# Altium footprint library Altium_WE_eiSos_WE-DS Bent 90°-TH.PcbLib: 8 footprints
Each footprint in its own frame and in the unit in brackets; x right, y up, seen from the top. Pads: shape width x height; smd on the part's side, far side on the other; paste and mask are expansions set on the pad; w line width, h text height; cw(c..) or ccw(c..) is an arc to the next point about the centre after c.
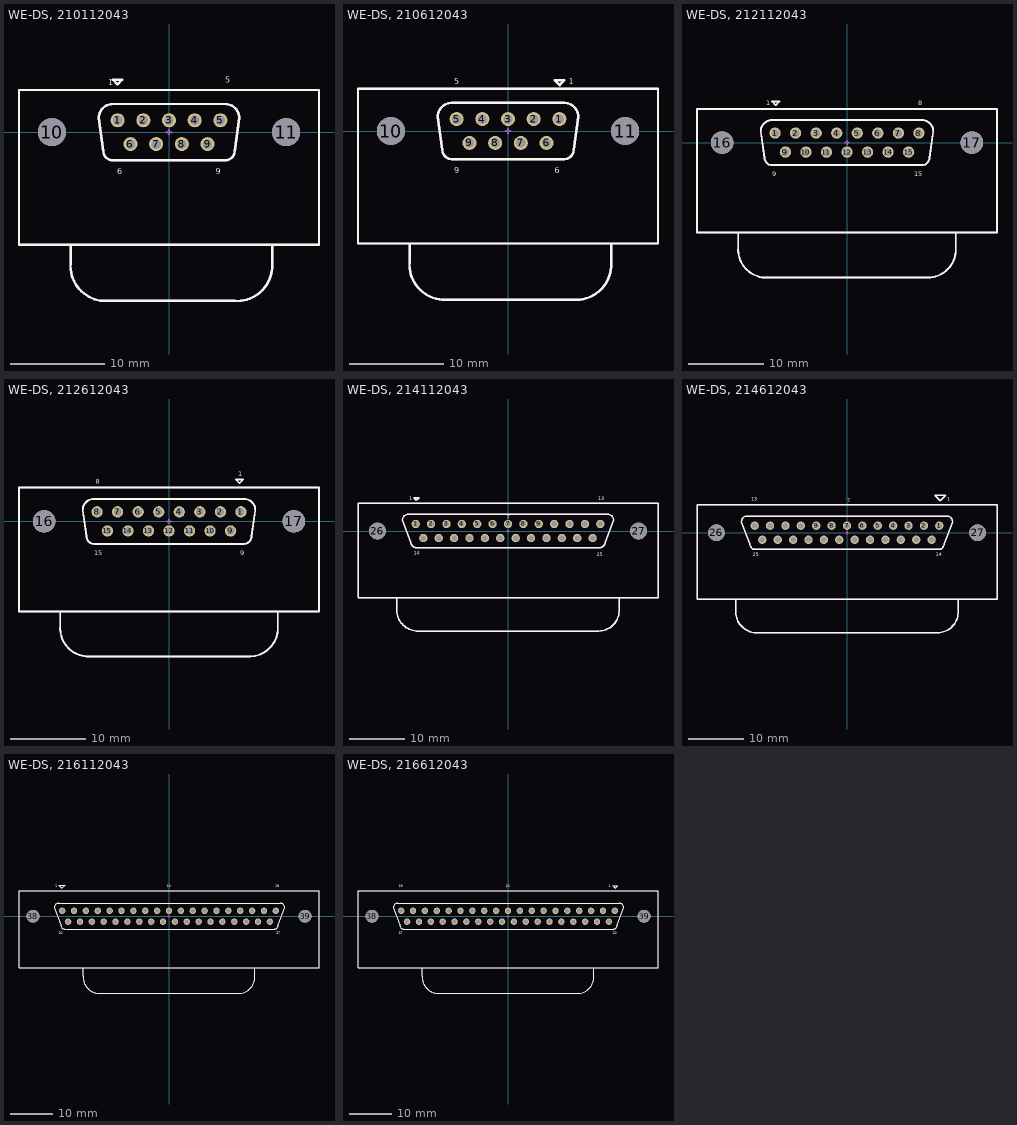
[diagram p0: the footprints below, top view; thin cyan lines are the x and y axes]

## WE-DS, 210112043 [mm] "D-SUB- 9P, MALE, RT ANGLE, TH"
height 12
pads (11):
  round 1.5 hole 1 unplated: 1(-5.48,1.27) 2(-2.74,1.27) 3(0,1.27) 4(2.74,1.27) 5(5.48,1.27) 6(-4.11,-1.27) 7(-1.37,-1.27) 8(1.37,-1.27) 9(4.11,-1.27)
  round 3 hole 3 unplated: 10(-12.5,0) 11(12.5,0)
Top Overlay:
  lines w0.254: -10.5,-12 -10.5,-14 ccw(c-6.75,-14.25) -7,-18 7,-18 ccw(c7.25,-14.25) 11,-14.5 11,-12 ; -5.996,-3.004 cw(c-5.996,-2) -7,-2 -7.5,1.5 cw(c-6,1.5) -6,3 6,3 cw(c6,1.5) 7.5,1.5 7,-2 cw(c5.996,-2) 5.996,-3.004 ; -5.996,-3 6,-3 ; -5.5,5.1 -5,5.6 -6,5.6 -5.5,5.1 ; -5.5,5.1 -5.5,5.1 ; -16,-12 16,-12 16,4.5 -16,4.5 -16,0 -16,-12
  text "1" at -6.5,5 h0.64
  text "5" at 6,5.25 h0.64
  text "9" at 5,-4.5 h0.64
  text "6" at -5.5,-4.5 h0.64
Mechanical 15:
  lines w0.254: -10.5,-12 -10.5,-14 ccw(c-6.75,-14.25) -7,-18 7,-18 ccw(c7.25,-14.25) 11,-14.5 11,-12 ; -5.996,-3.004 cw(c-5.996,-2) -7,-2 -7.5,1.5 cw(c-6,1.5) -6,3 6,3 cw(c6,1.5) 7.5,1.5 7,-2 cw(c5.996,-2) 5.996,-3.004 ; -5.996,-3 6,-3 ; -0.25,0 0.25,0 ; 0,-0.25 0,0.25 ; -16,-12 -16,0 -16,4.5 16,4.5 16,-12 -16,-12
3D body: height 13.2, standoff -3.6, extent -15.4,-17.5 15.4,4.2

## WE-DS, 210612043 [mm] "D-SUB- 9P, FEMALE, RT ANGLE, TH"
height 12
pads (11):
  round 1.5 hole 1 unplated: 1(5.48,1.27) 2(2.74,1.27) 3(0,1.27) 4(-2.74,1.27) 5(-5.48,1.27) 6(4.11,-1.27) 7(1.37,-1.27) 8(-1.37,-1.27) 9(-4.11,-1.27)
  round 3 hole 3 unplated: 10(-12.5,0) 11(12.5,0)
Top Overlay:
  lines w0.254: -10.5,-12 -10.5,-14 ccw(c-6.75,-14.25) -7,-18 7,-18 ccw(c7.25,-14.25) 11,-14.5 11,-12 ; -5.996,-3.004 cw(c-5.996,-2) -7,-2 -7.5,1.5 cw(c-6,1.5) -6,3 6,3 cw(c6,1.5) 7.5,1.5 7,-2 cw(c5.996,-2) 5.996,-3.004 ; -5.996,-3 6,-3 ; 5.5,4.9 5,5.4 6,5.4 5.5,4.9 ; 5.5,4.9 5.5,4.9 ; -16,-12 16,-12 16,4.5 -16,4.5 -16,0 -16,-12
  text "1" at 6.5,5 h0.64
  text "5" at -5.75,5 h0.64
  text "9" at -5.75,-4.5 h0.64
  text "6" at 5,-4.5 h0.64
Mechanical 15:
  lines w0.254: -10.5,-12 -10.5,-14 ccw(c-6.75,-14.25) -7,-18 7,-18 ccw(c7.25,-14.25) 11,-14.5 11,-12 ; -5.996,-3.004 cw(c-5.996,-2) -7,-2 -7.5,1.5 cw(c-6,1.5) -6,3 6,3 cw(c6,1.5) 7.5,1.5 7,-2 cw(c5.996,-2) 5.996,-3.004 ; -5.996,-3 6,-3 ; -0.25,0 0.25,0 ; 0,-0.25 0,0.25 ; -16,-12 -16,0 -16,4.5 16,4.5 16,-12 -16,-12
3D body: height 13.2, standoff -3.6, extent -15.4,-17.65 15.4,4.2

## WE-DS, 212112043 [mm] "D-SUB- 15P, MALE, RT ANGLE, TH"
height 12
pads (17):
  round 1.5 hole 1 unplated: 1(-9.59,1.27) 2(-6.85,1.27) 3(-4.11,1.27) 4(-1.37,1.27) 5(1.37,1.27) 6(4.11,1.27) 7(6.85,1.27) 8(9.59,1.27) 9(-8.22,-1.27) 10(-5.48,-1.27) 11(-2.74,-1.27) 12(0,-1.27) 13(2.74,-1.27) 14(5.48,-1.27) 15(8.22,-1.27)
  round 3 hole 3 unplated: 16(-16.65,0) 17(16.65,0)
Top Overlay:
  lines w0.254: -14.5,-12 -14.5,-14 ccw(c-10.75,-14.25) -11,-18 10.5,-18 ccw(c10.75,-14.25) 14.5,-14.5 14.5,-12 ; 9.996,-3.004 ccw(c9.996,-2) 11,-2 11.5,1.5 ccw(c10,1.5) 10,3 -10,3 ccw(c-10,1.5) -11.5,1.5 -11,-2 ccw(c-9.996,-2) -9.996,-3.004 9.996,-2.999 ; -9.5,5 -9,5.5 -10,5.5 -9.5,5 ; -9.5,5 -9.5,5 ; -20,-12 -20,0 -20,4.5 20,4.5 20,-12 -20,-12
  text "15" at 9,-4.5 h0.64
  text "9" at -10,-4.5 h0.64
  text "8" at 9.5,5 h0.64
  text "1" at -10.75,5 h0.64
Mechanical 15:
  lines w0.254: -14.5,-12 -14.5,-14 ccw(c-10.75,-14.25) -11,-18 10.5,-18 ccw(c10.75,-14.25) 14.5,-14.5 14.5,-12 ; -0.25,0 0.25,0 ; 0,-0.25 0,0.25 ; 9.996,-3.004 ccw(c9.996,-2) 11,-2 11.5,1.5 ccw(c10,1.5) 10,3 -10,3 ccw(c-10,1.5) -11.5,1.5 -11,-2 ccw(c-9.996,-2) -9.996,-3.004 9.996,-2.999 ; -20,-12 20,-12 20,4.5 -20,4.5 -20,0 -20,-12
3D body: height 13.2, standoff -3.6, extent -19.6,-17.5 19.6,4.2

## WE-DS, 212612043 [mm] "D-SUB- 15P, FEMALE, RT ANGLE, TH"
height 12
pads (17):
  round 1.5 hole 1 unplated: 1(9.59,1.27) 2(6.85,1.27) 3(4.11,1.27) 4(1.37,1.27) 5(-1.37,1.27) 6(-4.11,1.27) 7(-6.85,1.27) 8(-9.59,1.27) 9(8.22,-1.27) 10(5.48,-1.27) 11(2.74,-1.27) 12(0,-1.27) 13(-2.74,-1.27) 14(-5.48,-1.27) 15(-8.22,-1.27)
  round 3 hole 3 unplated: 16(-16.65,0) 17(16.65,0)
Top Overlay:
  lines w0.254: -14.5,-12 -14.5,-14 ccw(c-10.75,-14.25) -11,-18 10.5,-18 ccw(c10.75,-14.25) 14.5,-14.5 14.5,-12 ; 9.996,-3.004 ccw(c9.996,-2) 11,-2 11.5,1.5 ccw(c10,1.5) 10,3 -10,3 ccw(c-10,1.5) -11.5,1.5 -11,-2 ccw(c-9.996,-2) -9.996,-3.004 9.996,-2.999 ; -20,-12 20,-12 20,4.5 -20,4.5 -20,0 -20,-12 ; 8.9,5.6 9.4,5.1 9.9,5.6 8.9,5.6
  text "8" at -9.75,5 h0.64
  text "1" at 9.25,6 h0.64
  text "9" at 9.5,-4.5 h0.64
  text "15" at -10,-4.5 h0.64
Mechanical 15:
  lines w0.254: -14.5,-12 -14.5,-14 ccw(c-10.75,-14.25) -11,-18 10.5,-18 ccw(c10.75,-14.25) 14.5,-14.5 14.5,-12 ; -0.25,0 0.25,0 ; 0,-0.25 0,0.25 ; 9.996,-3.004 ccw(c9.996,-2) 11,-2 11.5,1.5 ccw(c10,1.5) 10,3 -10,3 ccw(c-10,1.5) -11.5,1.5 -11,-2 ccw(c-9.996,-2) -9.996,-3.004 9.996,-2.999 ; -20,-12 -20,0 -20,4.5 20,4.5 20,-12 -20,-12
3D body: height 13.2, standoff -3.6, extent -19.6,-17.65 19.6,4.2

## WE-DS, 214112043 [mm] "D-SUB- 25P, MALE, RT ANGLE, TH"
height 12
pads (27):
  round 1.5 hole 1 unplated: 1(-16.62,1.27) 2(-13.85,1.27) 3(-11.08,1.27) 4(-8.31,1.27) 5(-5.54,1.27) 6(-2.77,1.27) 7(0,1.27) 8(2.77,1.27) 9(5.54,1.27) 10(8.31,1.27) 11(11.08,1.27) 12(13.85,1.27) 13(16.62,1.27) 14(-15.24,-1.27) 15(-12.47,-1.27) 16(-9.7,-1.27) 17(-6.93,-1.27) 18(-4.16,-1.27) 19(-1.39,-1.27) 20(1.38,-1.27) 21(4.15,-1.27) 22(6.92,-1.27) 23(9.69,-1.27) 24(12.46,-1.27) 25(15.23,-1.27)
  round 3 hole 3 unplated: 26(-23.5,0) 27(23.5,0)
Top Overlay:
  lines w0.254: -20,-12 -20,-14 ccw(c-16.25,-14.25) -16.5,-18 16,-18 ccw(c16.25,-14.25) 20,-14.5 20,-12 ; -16.5,5.5 -16.5,5.5 ; -16.5,5.5 -17,6 -16,6 -16.5,5.5 ; -27,-12 27,-12 27,5 -27,5 -27,-12 ; -19,2 cw(c-18,2) -18,3 18,3 cw(c18,2) 19,2 17.5,-2 cw(c16.5,-2) 16.5,-3 -16.5,-3 cw(c-16.5,-2) -17.5,-2 -19,2
  text "1" at -17.75,5.5 h0.64
  text "14" at -17,-4.25 h0.64
  text "7" at -0.2,2.1 h0.64
  text "13" at 16.25,5.5 h0.64
  text "25" at 16,-4.5 h0.64
Mechanical 15:
  lines w0.254: -20,-12 -20,-14 ccw(c-16.25,-14.25) -16.5,-18 16,-18 ccw(c16.25,-14.25) 20,-14.5 20,-12 ; -0.25,0 0.25,0 ; 0,-0.25 0,0.25 ; -27,-12 -27,5 27,5 27,-12 -27,-12 ; -19,2 cw(c-18,2) -18,3 18,3 cw(c18,2) 19,2 17.5,-2 cw(c16.5,-2) 16.5,-3 -16.5,-3 cw(c-16.5,-2) -17.5,-2 -19,2
3D body: height 13.2, standoff -3.6, extent -26.55,-17.5 26.55,4.2

## WE-DS, 214612043 [mm] "D-SUB- 25P, FEMALE, RT ANGLE, TH"
height 12
pads (27):
  round 1.5 hole 1 unplated: 1(16.62,1.27) 2(13.85,1.27) 3(11.08,1.27) 4(8.31,1.27) 5(5.54,1.27) 6(2.77,1.27) 7(0,1.27) 8(-2.77,1.27) 9(-5.54,1.27) 10(-8.31,1.27) 11(-11.08,1.27) 12(-13.85,1.27) 13(-16.62,1.27) 14(15.23,-1.27) 15(12.46,-1.27) 16(9.69,-1.27) 17(6.92,-1.27) 18(4.15,-1.27) 19(1.38,-1.27) 20(-1.39,-1.27) 21(-4.16,-1.27) 22(-6.93,-1.27) 23(-9.7,-1.27) 24(-12.47,-1.27) 25(-15.24,-1.27)
  round 3 hole 3 unplated: 26(-23.5,0) 27(23.5,0)
Top Overlay:
  lines w0.254: -20,-12 -20,-14 ccw(c-16.25,-14.25) -16.5,-18 16,-18 ccw(c16.25,-14.25) 20,-14.5 20,-12 ; 16.75,5.75 17.75,6.75 15.75,6.75 16.75,5.75 ; 16.75,5.75 16.75,5.75 ; -27,-12 -27,5 27,5 27,-12 -27,-12 ; -19,2 cw(c-18,2) -18,3 18,3 cw(c18,2) 19,2 17.5,-2 cw(c16.5,-2) 16.5,-3 -16.5,-3 cw(c-16.5,-2) -17.5,-2 -19,2
  text "25" at -17,-4.25 h0.64
  text "13" at -17.25,5.75 h0.64
  text "1" at 18,5.75 h0.64
  text "14" at 16,-4.25 h0.64
  text "7" at 0,5.5 h0.64
Mechanical 15:
  lines w0.254: -20,-12 -20,-14 ccw(c-16.25,-14.25) -16.5,-18 16,-18 ccw(c16.25,-14.25) 20,-14.5 20,-12 ; -0.25,0 0.25,0 ; 0,-0.25 0,0.25 ; -27,-12 27,-12 27,5 -27,5 -27,-12 ; -19,2 cw(c-18,2) -18,3 18,3 cw(c18,2) 19,2 17.5,-2 cw(c16.5,-2) 16.5,-3 -16.5,-3 cw(c-16.5,-2) -17.5,-2 -19,2

## WE-DS, 216112043 [mm] "D-SUB- 37P, MALE, RT ANGLE, TH"
height 12
pads (39):
  round 1.5 hole 1 unplated: 1(-24.93,1.27) 2(-22.16,1.27) 3(-19.39,1.27) 4(-16.62,1.27) 5(-13.85,1.27) 6(-11.08,1.27) 7(-8.31,1.27) 8(-5.54,1.27) 9(-2.77,1.27) 10(0,1.27) 11(2.77,1.27) 12(5.54,1.27) 13(8.31,1.27) 14(11.08,1.27) 15(13.85,1.27) 16(16.62,1.27) 17(19.39,1.27) 18(22.16,1.27) 19(24.93,1.27) 20(-23.55,-1.27) 21(-20.78,-1.27) 22(-18.01,-1.27) 23(-15.24,-1.27) 24(-12.47,-1.27) 25(-9.7,-1.27) 26(-6.93,-1.27) 27(-4.16,-1.27) 28(-1.39,-1.27) 29(1.38,-1.27) 30(4.15,-1.27) 31(6.92,-1.27) 32(9.69,-1.27) 33(12.46,-1.27) 34(15.23,-1.27) 35(18,-1.27) 36(20.77,-1.27) 37(23.54,-1.27)
  round 3 hole 3 unplated: 38(-31.75,0) 39(31.75,0)
Top Overlay:
  lines w0.254: -26,3 26,3 cw(c26,2) 27,2 25.5,-2 cw(c24.5,-2) 24.5,-3 -24,-3 ; -25.75,3 ccw(c-25.75,2) -26.75,2 -25.25,-2 ccw(c-24.25,-2) -24.25,-3 ; -20,-12 -20,-14 ccw(c-16.25,-14.25) -16.5,-18 16,-18 ccw(c16.25,-14.25) 20,-14.5 20,-12 ; -24.75,6.75 -25,6.5 -25.75,7.25 -25.5,7.25 -24.5,7.25 -24.25,7.25 -24.75,6.75 ; -24.75,6.75 -24.75,6.75 ; -35,-12 -35,6 35,6 35,-12 -35,-12
  text "1" at -26.5,6.75 h0.64
  text "10" at -0.5,6.75 h0.64
  text "19" at 24.75,6.75 h0.64
  text "37" at 25,-4.25 h0.64
  text "20" at -25.75,-4.25 h0.64
Mechanical 15:
  lines w0.254: -20,-12 -20,-14 ccw(c-16.25,-14.25) -16.5,-18 16,-18 ccw(c16.25,-14.25) 20,-14.5 20,-12 ; -0.25,0 0.25,0 ; 0,-0.25 0,0.25 ; -35,-12 35,-12 35,6 -35,6 -35,-12 ; -26.75,2 cw(c-25.75,2) -25.75,3 26,3 cw(c26,2) 27,2 25.5,-2 cw(c24.5,-2) 24.5,-3 -24.25,-3 cw(c-24.25,-2) -25.25,-2 -26.75,2

## WE-DS, 216612043 [mm] "D-SUB- 37P, FEMALE, RT ANGLE, TH"
height 12
pads (39):
  round 1.5 hole 1 unplated: 1(24.93,1.27) 2(22.16,1.27) 3(19.39,1.27) 4(16.62,1.27) 5(13.85,1.27) 6(11.08,1.27) 7(8.31,1.27) 8(5.54,1.27) 9(2.77,1.27) 10(0,1.27) 11(-2.77,1.27) 12(-5.54,1.27) 13(-8.31,1.27) 14(-11.08,1.27) 15(-13.85,1.27) 16(-16.62,1.27) 17(-19.39,1.27) 18(-22.16,1.27) 19(-24.93,1.27) 20(23.54,-1.27) 21(20.77,-1.27) 22(18,-1.27) 23(15.23,-1.27) 24(12.46,-1.27) 25(9.69,-1.27) 26(6.92,-1.27) 27(4.15,-1.27) 28(1.38,-1.27) 29(-1.39,-1.27) 30(-4.16,-1.27) 31(-6.93,-1.27) 32(-9.7,-1.27) 33(-12.47,-1.27) 34(-15.24,-1.27) 35(-18.01,-1.27) 36(-20.78,-1.27) 37(-23.55,-1.27)
  round 3 hole 3 unplated: 38(-31.75,0) 39(31.75,0)
Top Overlay:
  lines w0.254: -20,-12 -20,-14 ccw(c-16.25,-14.25) -16.5,-18 16,-18 ccw(c16.25,-14.25) 20,-14.5 20,-12 ; -35,-12 35,-12 35,6 -35,6 -35,-12 ; -26.75,2 cw(c-25.75,2) -25.75,3 26,3 cw(c26,2) 27,2 25.5,-2 cw(c24.5,-2) 24.5,-3 -24.25,-3 cw(c-24.25,-2) -25.25,-2 -26.75,2 ; 24.4,7.1 25,6.5 25.6,7.1 24.4,7.1
  text "19" at -25.5,6.75 h0.64
  text "10" at -0.5,6.75 h0.64
  text "1" at 23.5,6.75 h0.64
  text "20" at 24.5,-4.25 h0.64
  text "37" at -25.5,-4.25 h0.64
Mechanical 15:
  lines w0.254: -24.25,-3 cw(c-24.25,-2) -25.25,-2 -26.75,2 cw(c-25.75,2) -25.75,3 26,3 cw(c26,2) 27,2 25.5,-2 cw(c24.5,-2) 24.5,-3 ; -24,-3 24.75,-3 ; -20,-12 -20,-14 ccw(c-16.25,-14.25) -16.5,-18 16,-18 ccw(c16.25,-14.25) 20,-14.5 20,-12 ; -0.25,0 0.25,0 ; 0,-0.25 0,0.25 ; -35,-12 35,-12 35,6 -35,6 -35,-12 ; 25,6.5 25,6.5